# Altium schematic symbol library WS2812.SchLib: 3 symbols
Pins are listed as number, name and electrical type; pins without a type are passive.

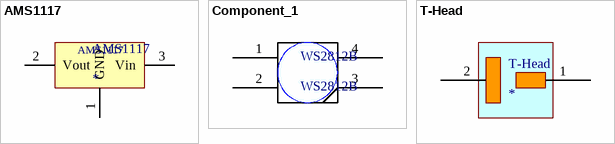
[diagram p0: symbols AMS1117 to T-Head]

## AMS1117
designator AMS1117
footprint AMS1117-3.3
pins: 1 GND, 2 Vout, 3 Vin

## Component_1
designator WS2812B, comment WS2812B
footprint WS2812B
pins: 1 VDD, 2 DOUT, 3 GND, 4 DIN

## T-Head
designator T-Head
footprint T_head; pin to pad 1>2 2>1
pins: 1 GND, 2 VCC